# Altium schematic symbol library Relay-DPST.Schlib: 1 symbol
Pins are listed as number, name and electrical type; pins without a type are passive.

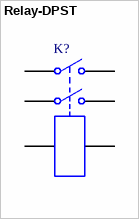
[diagram p0: symbol Relay-DPST]

## Relay-DPST
designator K?
Dual-Pole Single-Throw Relay
pins: 1, 2, 3, 4, 5, 6